# Altium integrated library ST Audio Graphic Equaliser.IntLib: 2 symbols
Pins are listed as number, name and electrical type; pins without a type are passive.

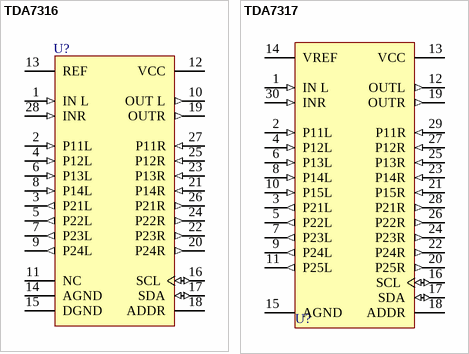
[diagram p0: symbols TDA7316 to TDA7317]

## TDA7316
designator U?
4-Bands Digital-Controlled Graphic Equalizer; Published: 24-Aug-2001; LatestRevisionDate: 6-Jun-2005; LatestRevisionNote: Stylized 3D Model Added.; DatasheetDocument: Nov-1999; PackageDocument: Jul-2001; PackageReference: SO28; Publisher: Altium Limited; Code_IPC: SO28W; ComponentLink1Description: Manufacturer Link; ComponentLink1URL: http://www.st.com/
footprint SO28 (Small Outline, Plastic; 28 Leads; Body Width 7.5 mm; Pitch 1.27 mm)
3D model SO28 (Small Outline, Plastic; 28 Leads; Body Width 7.5 mm; Pitch 1.27 mm)
pins: 1 IN L (in), 2 P11L (in), 3 P21L (out), 4 P12L (in), 5 P22L (out), 6 P13L (in), 7 P23L (out), 8 P14L (in), 9 P24L (out), 10 OUT L (out), 11 NC, 12 VCC (power), 13 REF, 14 AGND (power), 15 DGND (power), 16 SCL (io), 17 SDA (io), 18 ADDR, 19 OUTR (out), 20 P24R (out), 21 P14R (in), 22 P23R (out), 23 P13R (in), 24 P22R (out), 25 P12R (in), 26 P21R (out), 27 P11R (in), 28 INR (in)

## TDA7317
designator U?
5-Bands Digital-Controlled Graphic Equalizer; Published: 24-Aug-2001; LatestRevisionDate: 6-Jun-2005; LatestRevisionNote: Stylized 3D Model Added.; DatasheetDocument: Nov-1999; PackageDocument: Nov-1999; PackageReference: SDIP30; Publisher: Altium Limited; ComponentLink1Description: Manufacturer Link; ComponentLink1URL: http://www.st.com/
footprint SDIP30 (DIP; 30 Leads; Row Spacing 10.16 mm; Pitch 1.778 mm)
3D model SDIP30 (DIP; 30 Leads; Row Spacing 10.16 mm; Pitch 1.778 mm)
pins: 1 IN L (in), 2 P11L (in), 3 P21L (out), 4 P12L (in), 5 P22L (out), 6 P13L (in), 7 P23L (out), 8 P14L (in), 9 P24L (out), 10 P15L (in), 11 P25L (out), 12 OUTL (out), 13 VCC (power), 14 VREF, 15 AGND (power), 16 SCL (io), 17 SDA (io), 18 ADDR, 19 OUTR (out), 20 P25R (out), 21 P15R (in), 22 P24R (out), 23 P14R (in), 24 P23R (out), 25 P13R (in), 26 P22R (out), 27 P12R (in), 28 P21R (out), 29 P11R (in), 30 INR (in)